# Altium footprint library Analog.PcbLib: 14 footprints
Each footprint in its own frame and in the unit in brackets; x right, y up, seen from the top. Pads: shape width x height; smd on the part's side, far side on the other; paste and mask are expansions set on the pad; w line width, h text height; cw(c..) or ccw(c..) is an arc to the next point about the centre after c.
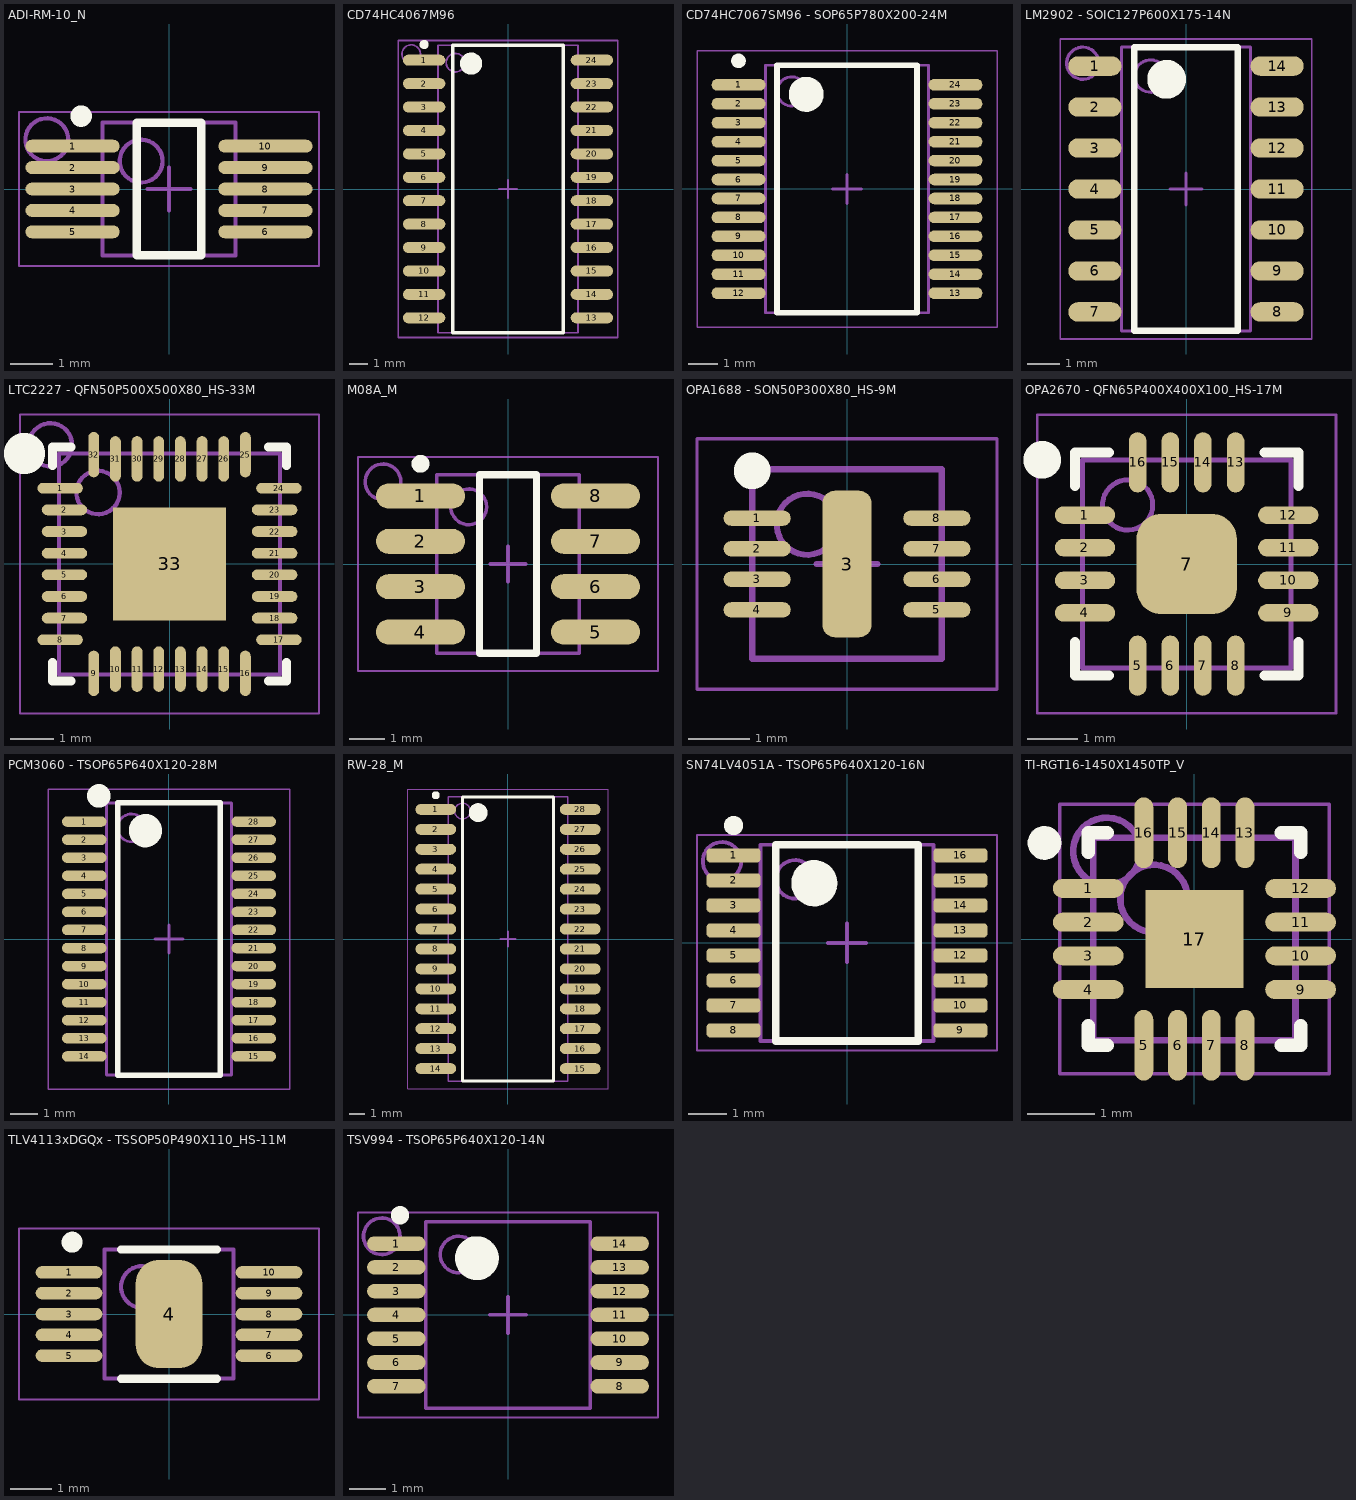
[diagram p0: the footprints below, top view; thin cyan lines are the x and y axes]

## ADI-RM-10_N [mm] "SOP, 10-Leads, Body 3x3mm, Pitch 0.5mm, IPC Medium Density"
height 1.1
pads (10):
  oval 2.2x0.3 smd paste-0.025 mask+0.1: 1(-2.25,1) 2(-2.25,0.5) 3(-2.25,0) 4(-2.25,-0.5) 5(-2.25,-1) 6(2.25,-1) 7(2.25,-0.5) 8(2.25,0) 9(2.25,0.5) 10(2.25,1)
Top Overlay:
  circle w0.25: c-2.05,1.7 r0.125
  lines w0.2: -0.75,-1.55 -0.75,1.55 0.75,1.55 0.75,-1.55 -0.75,-1.55
Mechanical 13:
  circle w0.1: c-0.65,0.65 r0.5
  lines w0.1: -1.55,-1.55 -1.55,1.55 1.55,1.55 1.55,-1.55 -1.55,-1.55
Mechanical 15:
  lines w0.05: -3.5,-1.8 -3.5,1.8 3.5,1.8 3.5,-1.8 -3.5,-1.8
  lines w0.1: -0.5,0 0.5,0 ; 0,-0.5 0,0.5
Assembly:
  circle w0.1: c-2.85,1.15 r0.5
  lines w0.05: -3.5,-1.8 3.5,-1.8 3.5,1.8 -3.5,1.8 -3.5,-1.8
  text ".Designator" at -2.35,-0.25 h1.1
3D body: height 1.1, standoff 0.05, extent -1.55,-1.55 1.55,1.55

## CD74HC4067M96 [mm] "SOIC, 24-Leads, Body 15.6x7.6mm (max), Pitch 1.27mm, IPC Medium Density"
height 2.65
pads (24):
  oval 2.3x0.6 smd: 1(-4.55,6.985) 2(-4.55,5.715) 3(-4.55,4.445) 4(-4.55,3.175) 5(-4.55,1.905) 6(-4.55,0.635) 7(-4.55,-0.635) 8(-4.55,-1.905) 9(-4.55,-3.175) 10(-4.55,-4.445) 11(-4.55,-5.715) 12(-4.55,-6.985) 13(4.55,-6.985) 14(4.55,-5.715) 15(4.55,-4.445) 16(4.55,-3.175) 17(4.55,-1.905) 18(4.55,-0.635) 19(4.55,0.635) 20(4.55,1.905) 21(4.55,3.175) 22(4.55,4.445) 23(4.55,5.715) 24(4.55,6.985)
Top Overlay:
  circle w0.6: c-2,6.8 r0.3
  circle w0.25: c-4.55,7.835 r0.125
  lines w0.2: -3,-7.8 3,-7.8 3,7.8 -3,7.8 -3,-7.8
Mechanical 13:
  circle w0.1: c-2.85,6.85 r0.5
  lines w0.1: -3.8,-7.8 3.8,-7.8 3.8,7.8 -3.8,7.8 -3.8,-7.8
Mechanical 15:
  lines w0.1: -0.5,0 0.5,0 ; 0,-0.5 0,0.5 ; -5.95,-8.05 5.95,-8.05 5.95,8.05 -5.95,8.05 -5.95,-8.05
Assembly:
  circle w0.1: c-5.25,7.32 r0.5
  lines w0.1: -5.95,-8.05 -5.95,8.05 5.95,8.05 5.95,-8.05 -5.95,-8.05
  text ".Designator" at 0.3,-2.1 h1.1
3D body: height 2.65, standoff 0.1, extent -3.8,-7.8 3.8,7.8

## CD74HC7067SM96 - SOP65P780X200-24M [mm] "SOP, 24-Leads, Body 8.20x5.30mm, Pitch 0.65mm, IPC Low Density"
height 2
pads (24):
  oval 1.85x0.4 smd paste-0.06: 1(-3.725,3.575) 2(-3.725,2.925) 3(-3.725,2.275) 4(-3.725,1.625) 5(-3.725,0.975) 6(-3.725,0.325) 7(-3.725,-0.325) 8(-3.725,-0.975) 9(-3.725,-1.625) 10(-3.725,-2.275) 11(-3.725,-2.925) 12(-3.725,-3.575) 13(3.725,-3.575) 14(3.725,-2.925) 15(3.725,-2.275) 16(3.725,-1.625) 17(3.725,-0.975) 18(3.725,-0.325) 19(3.725,0.325) 20(3.725,0.975) 21(3.725,1.625) 22(3.725,2.275) 23(3.725,2.925) 24(3.725,3.575)
Top Overlay:
  circle w0.6: c-1.4,3.25 r0.3
  circle w0.25: c-3.725,4.4 r0.125
  lines w0.2: -2.4,-4.25 2.4,-4.25 2.4,4.25 -2.4,4.25 -2.4,-4.25
Mechanical 13:
  circle w0.1: c-1.9,3.35 r0.5
  lines w0.1: -2.8,-4.25 2.8,-4.25 2.8,4.25 -2.8,4.25 -2.8,-4.25
Mechanical 15:
  lines w0.05: -5.15,-4.75 5.15,-4.75 5.15,4.75 -5.15,4.75 -5.15,-4.75
  lines w0.1: -0.5,0 0.5,0 ; 0,-0.5 0,0.5
3D body: height 2, standoff 0.05, extent -2.8,-4.25 2.8,4.25

## LM2902 - SOIC127P600X175-14N [mm] "SOIC, 14-Leads, Body 8.65x3.90mm, Pitch 1.27mm, IPC Medium Density"
height 1.75
pads (14):
  oval 1.65x0.6 smd paste-0.028: 1(-2.825,3.81) 2(-2.825,2.54) 3(-2.825,1.27) 4(-2.825,0) 5(-2.825,-1.27) 6(-2.825,-2.54) 7(-2.825,-3.81) 8(2.825,-3.81) 9(2.825,-2.54) 10(2.825,-1.27) 11(2.825,0) 12(2.825,1.27) 13(2.825,2.54) 14(2.825,3.81)
Top Overlay:
  circle w0.6: c-0.6,3.4 r0.3
  lines w0.2: -1.6,-4.4 -1.6,4.4 1.6,4.4 1.6,-4.4 -1.6,-4.4
Mechanical 13:
  circle w0.1: c-1.1,3.5 r0.5
  lines w0.1: -2,-4.4 -2,4.4 2,4.4 2,-4.4 -2,-4.4
Mechanical 15:
  lines w0.05: -3.9,-4.65 -3.9,4.65 3.9,4.65 3.9,-4.65 -3.9,-4.65
  lines w0.1: -0.5,0 0.5,0 ; 0,-0.5 0,0.5
Assembly:
  circle w0.1: c-3.2,3.9 r0.5
  lines w0.05: -3.9,-4.65 3.9,-4.65 3.9,4.65 -3.9,4.65 -3.9,-4.65
  text ".Designator" at 0.3,-2.1 h1.1
3D body: height 1.75, standoff 0.1, extent -2,-4.4 2,4.4

## LTC2227 - QFN50P500X500X80_HS-33M [mm] "QFN, 32-Leads, Body 5.00x5.00mm, Pitch 0.50mm, Thermal Pad 3.30x3.30mm, IPC Low Density"
height 0.8
pads (33):
  oval 1.05x0.25 smd paste-0.025: 1(-2.525,1.75) 2(-2.425,1.25) 3(-2.425,0.75) 4(-2.425,0.25) 5(-2.425,-0.25) 6(-2.425,-0.75) 7(-2.425,-1.25) 8(-2.525,-1.75) 17(2.525,-1.75) 18(2.425,-1.25) 19(2.425,-0.75) 20(2.425,-0.25) 21(2.425,0.25) 22(2.425,0.75) 23(2.425,1.25) 24(2.525,1.75)
  oval 0.25x1.05 smd paste-0.025: 9(-1.75,-2.525) 10(-1.25,-2.425) 11(-0.75,-2.425) 12(-0.25,-2.425) 13(0.25,-2.425) 14(0.75,-2.425) 15(1.25,-2.425) 16(1.75,-2.525) 25(1.75,2.525) 26(1.25,2.425) 27(0.75,2.425) 28(0.25,2.425) 29(-0.25,2.425) 30(-0.75,2.425) 31(-1.25,2.425) 32(-1.75,2.525)
  rect 2.6x2.6 smd paste-0.6: 33(0,0)
Top Overlay:
  circle w0.7: c-3.35,2.55 r0.125
  lines w0.2: -2.7,-2.275 -2.7,-2.7 -2.275,-2.7 ; -2.7,2.275 -2.7,2.7 -2.275,2.7 ; 2.275,-2.7 2.7,-2.7 2.7,-2.275 ; 2.275,2.7 2.7,2.7 2.7,2.275
Mechanical 13:
  circle w0.1: c-1.65,1.65 r0.5
  lines w0.1: -2.55,-2.55 2.55,-2.55 2.55,2.55 -2.55,2.55 -2.55,-2.55
Mechanical 15:
  lines w0.05: -3.45,-3.45 3.45,-3.45 3.45,3.45 -3.45,3.45 -3.45,-3.45
  lines w0.1: -0.5,0 0.5,0 ; 0,-0.5 0,0.5
Assembly:
  circle w0.1: c-2.75,2.75 r0.5
  lines w0.05: -3.45,-3.45 -3.45,3.45 3.45,3.45 3.45,-3.45 -3.45,-3.45
  text ".Designator" at -2.325,-0.3 h1.1
3D body: height 0.8, standoff 0, extent -2.55,-2.55 2.55,2.55

## M08A_M [mm] "SOIC, 8-Leads, Body 4.9x3.9mm, Pitch 1.27mm, IPC Low Density"
height 1.75
pads (8):
  oval 2.5x0.7 smd paste-0.025: 1(-2.45,1.905) 2(-2.45,0.635) 3(-2.45,-0.635) 4(-2.45,-1.905) 5(2.45,-1.905) 6(2.45,-0.635) 7(2.45,0.635) 8(2.45,1.905)
Top Overlay:
  circle w0.25: c-2.45,2.805 r0.125
  lines w0.2: -0.8,-2.5 -0.8,2.5 0.8,2.5 0.8,-2.5 -0.8,-2.5
Mechanical 13:
  circle w0.1: c-1.1,1.6 r0.5
  lines w0.1: -2,-2.5 -2,2.5 2,2.5 2,-2.5 -2,-2.5
Mechanical 15:
  lines w0.05: -4.2,-3 -4.2,3 4.2,3 4.2,-3 -4.2,-3
  lines w0.1: -0.5,0 0.5,0 ; 0,-0.5 0,0.5
Assembly:
  circle w0.1: c-3.5,2.3 r0.5
  lines w0.05: -4.2,-3 4.2,-3 4.2,3 -4.2,3 -4.2,-3
  text ".Designator" at -2.3,-0.25 h1.1
3D body: height 1.75, standoff 0.1, extent -2,-2.5 2,2.5

## OPA1688 - SON50P300X80_HS-9M [mm] "SON, 8-Leads, Body 3.00x3.00mm, Pitch 0.50mm, Thermal Pad 2.00x1.20mm, IPC Low Density"
height 0.8
pads (9):
  rrect100% 1.1x0.25 smd paste-99: 1(-1.47,0.75) 2(-1.47,0.25) 3(-1.47,-0.25) 4(-1.47,-0.75) 5(1.47,-0.75) 6(1.47,-0.25) 7(1.47,0.25) 8(1.47,0.75)
  rrect50% 0.8x2.4 smd paste-99: 3(0,0)
Top Overlay:
  circle w0.5: c-1.55,1.525 r0.05
Top Paste:
  lines w0.23: -1.875,-0.75 -1.325,-0.75 ; -1.875,-0.25 -1.325,-0.25 ; -1.875,0.25 -1.325,0.25 ; -1.875,0.75 -1.325,0.75 ; 1.325,-0.75 1.875,-0.75 ; 1.325,-0.25 1.875,-0.25 ; 1.325,0.25 1.875,0.25 ; 1.325,0.75 1.875,0.75
  lines w0.4: -0.128,0.325 0.122,0.325 0.122,0.85 -0.128,0.85 -0.128,0.325 ; -0.125,-0.85 -0.125,-0.325 0.125,-0.325 0.125,-0.85 -0.125,-0.85
Mechanical 13:
  circle w0.1: c-0.65,0.65 r0.5
  lines w0.1: -1.55,-1.55 1.55,-1.55 1.55,1.55 -1.55,1.55 -1.55,-1.55
Mechanical 15:
  lines w0.05: -2.455,-2.05 2.455,-2.05 2.455,2.05 -2.455,2.05 -2.455,-2.05
  lines w0.1: -0.5,0 0.5,0 ; 0,-0.5 0,0.5
3D body: height 0.8, standoff 0, extent -1.55,-1.55 1.55,1.55

## OPA2670 - QFN65P400X400X100_HS-17M [mm] "QFN, 16-Leads, Body 4.00x4.00mm, Pitch 0.65mm, Thermal Pad 2.16x2.16mm, IPC Low Density"
height 1
pads (17):
  oval 1.2x0.35 smd paste-0.05: 1(-2.025,0.975) 2(-2.025,0.325) 3(-2.025,-0.325) 4(-2.025,-0.975) 9(2.025,-0.975) 10(2.025,-0.325) 11(2.025,0.325) 12(2.025,0.975)
  oval 0.35x1.2 smd paste-0.05: 5(-0.975,-2.025) 6(-0.325,-2.025) 7(0.325,-2.025) 8(0.975,-2.025) 13(0.975,2.025) 14(0.325,2.025) 15(-0.325,2.025) 16(-0.975,2.025)
  rrect50% 2x2 smd paste-99: 7(0,0)
Top Overlay:
  circle w0.5: c-2.875,2.075 r0.125
  lines w0.2: -2.225,-1.55 -2.225,-2.225 -1.55,-2.225 ; -2.225,1.55 -2.225,2.225 -1.55,2.225 ; 1.55,-2.225 2.225,-2.225 2.225,-1.55 ; 1.55,2.225 2.225,2.225 2.225,1.55
Top Paste:
  lines w0.9: -0.5,-0.5 -0.5,0.5 ; 0.5,-0.5 0.5,0.5
Mechanical 13:
  circle w0.1: c-1.175,1.175 r0.5
  lines w0.1: -2.075,-2.075 2.075,-2.075 2.075,2.075 -2.075,2.075 -2.075,-2.075
Mechanical 15:
  lines w0.05: -2.975,-2.975 2.975,-2.975 2.975,2.975 -2.975,2.975 -2.975,-2.975
  lines w0.1: -0.5,0 0.5,0 ; 0,-0.5 0,0.5
3D body: height 1, standoff 0.01, extent -2.075,-2.075 2.075,2.075

## PCM3060 - TSOP65P640X120-28M [mm] "TSOP, 28-Leads, Body 9.70x4.40mm, Pitch 0.65mm, IPC Low Density"
height 1.2
pads (28):
  oval 1.6x0.38 smd paste-99: 1(-3.05,4.225) 2(-3.05,3.575) 3(-3.05,2.925) 4(-3.05,2.275) 5(-3.05,1.625) 6(-3.05,0.975) 7(-3.05,0.325) 8(-3.05,-0.325) 9(-3.05,-0.975) 10(-3.05,-1.625) 11(-3.05,-2.275) 12(-3.05,-2.925) 13(-3.05,-3.575) 14(-3.05,-4.225) 15(3.05,-4.225) 16(3.05,-3.575) 17(3.05,-2.925) 18(3.05,-2.275) 19(3.05,-1.625) 20(3.05,-0.975) 21(3.05,-0.325) 22(3.05,0.325) 23(3.05,0.975) 24(3.05,1.625) 25(3.05,2.275) 26(3.05,2.925) 27(3.05,3.575) 28(3.05,4.225)
Top Overlay:
  circle w0.6: c-0.85,3.9 r0.3
  circle w0.6: c-2.525,5.15 r0.125
  lines w0.2: -1.85,-4.9 1.85,-4.9 1.85,4.9 -1.85,4.9 -1.85,-4.9
Top Paste:
  lines w0.36: -3.65,-3.575 -2.7,-3.575 ; -3.65,-2.275 -2.7,-2.275 ; -3.65,-0.975 -2.7,-0.975 ; -3.65,0.325 -2.7,0.325 ; -3.65,1.625 -2.7,1.625 ; -3.65,2.925 -2.7,2.925 ; -3.65,4.225 -2.7,4.225 ; -3.4,-4.225 -2.45,-4.225 ; -3.4,-2.925 -2.45,-2.925 ; -3.4,-1.625 -2.45,-1.625 ; -3.4,-0.325 -2.45,-0.325 ; -3.4,0.975 -2.45,0.975 ; -3.4,2.275 -2.45,2.275 ; -3.4,3.575 -2.45,3.575 ; 2.45,-4.225 3.4,-4.225 ; 2.45,-2.925 3.4,-2.925 ; 2.45,-1.625 3.4,-1.625 ; 2.45,-0.325 3.4,-0.325 ; 2.45,0.975 3.4,0.975 ; 2.45,2.275 3.4,2.275 ; 2.45,3.575 3.4,3.575 ; 2.7,-3.575 3.65,-3.575 ; 2.7,-2.275 3.65,-2.275 ; 2.7,-0.975 3.65,-0.975 ; 2.7,0.325 3.65,0.325 ; 2.7,1.625 3.65,1.625 ; 2.7,2.925 3.65,2.925 ; 2.7,4.225 3.65,4.225
Mechanical 13:
  circle w0.1: c-1.35,4 r0.5
  lines w0.1: -2.25,-4.9 2.25,-4.9 2.25,4.9 -2.25,4.9 -2.25,-4.9
Mechanical 15:
  lines w0.05: -4.35,-5.4 4.35,-5.4 4.35,5.4 -4.35,5.4 -4.35,-5.4
  lines w0.1: -0.5,0 0.5,0 ; 0,-0.5 0,0.5
3D body: height 1.2, standoff 0.1, extent -2.25,-4.9 2.25,4.9

## RW-28_M [mm] "SOIC, 28-Leads, Body 17.9x7.5mm, Pitch 1.27mm, IPC Low Density"
height 2.65
pads (28):
  oval 2.6x0.7 smd paste-0.025: 1(-4.6,8.255) 2(-4.6,6.985) 3(-4.6,5.715) 4(-4.6,4.445) 5(-4.6,3.175) 6(-4.6,1.905) 7(-4.6,0.635) 8(-4.6,-0.635) 9(-4.6,-1.905) 10(-4.6,-3.175) 11(-4.6,-4.445) 12(-4.6,-5.715) 13(-4.6,-6.985) 14(-4.6,-8.255) 15(4.6,-8.255) 16(4.6,-6.985) 17(4.6,-5.715) 18(4.6,-4.445) 19(4.6,-3.175) 20(4.6,-1.905) 21(4.6,-0.635) 22(4.6,0.635) 23(4.6,1.905) 24(4.6,3.175) 25(4.6,4.445) 26(4.6,5.715) 27(4.6,6.985) 28(4.6,8.255)
Top Overlay:
  circle w0.6: c-1.9,8.05 r0.3
  circle w0.25: c-4.6,9.155 r0.125
  lines w0.2: -2.9,-9.05 2.9,-9.05 2.9,9.05 -2.9,9.05 -2.9,-9.05
Mechanical 13:
  circle w0.1: c-2.9,8.15 r0.5
  lines w0.1: -3.8,-9.05 3.8,-9.05 3.8,9.05 -3.8,9.05 -3.8,-9.05
Mechanical 15:
  lines w0.05: -6.4,-9.55 6.4,-9.55 6.4,9.55 -6.4,9.55 -6.4,-9.55
  lines w0.1: -0.5,0 0.5,0 ; 0,-0.5 0,0.5
Assembly:
  text ".Designator" at -2.175,-0.25 h1.1
3D body: height 2.65, standoff 0.1, extent -3.8,-9.05 3.8,9.05

## SN74LV4051A - TSOP65P640X120-16N [mm] "TSOP, 16-Leads, Body 5.00x4.40mm, Pitch 0.65mm, IPC Medium Density"
height 1.2
pads (16):
  rrect50% 1.4x0.368 smd paste-0.051 mask+0.09: 1(-2.95,2.275) 2(-2.95,1.625) 3(-2.95,0.975) 4(-2.95,0.325) 5(-2.95,-0.325) 6(-2.95,-0.975) 7(-2.95,-1.625) 8(-2.95,-2.275) 9(2.95,-2.275) 10(2.95,-1.625) 11(2.95,-0.975) 12(2.95,-0.325) 13(2.95,0.325) 14(2.95,0.975) 15(2.95,1.625) 16(2.95,2.275)
Top Overlay:
  circle w0.25: c-2.95,3.05 r0.125
  circle w0.6: c-0.85,1.55 r0.3
  lines w0.2: -1.85,-2.55 -1.85,2.55 1.85,2.55 1.85,-2.55 -1.85,-2.55
Mechanical 13:
  circle w0.1: c-1.35,1.65 r0.5
  lines w0.1: -2.25,-2.55 -2.25,2.55 2.25,2.55 2.25,-2.55 -2.25,-2.55
Mechanical 15:
  lines w0.05: -3.9,-2.8 -3.9,2.8 3.9,2.8 3.9,-2.8 -3.9,-2.8
  lines w0.1: -0.5,0 0.5,0 ; 0,-0.5 0,0.5
Assembly:
  circle w0.1: c-3.25,2.12 r0.5
  lines w0.05: -3.9,-2.8 3.9,-2.8 3.9,2.8 -3.9,2.8 -3.9,-2.8
  text ".Designator" at -2.2,-0.2 h1.1
3D body: height 1.2, standoff 0.05, extent -2.25,-2.55 2.25,2.55

## TI-RGT16-1450X1450TP_V [mm] "QFN, 16-Leads, Body 3x3mm, Pitch 0.5mm, Thermal Pad 1.45x1.45mm"
height 1
pads (17):
  oval 1.05x0.28 smd paste-0.025 mask+0.12: 1(-1.575,0.75) 2(-1.575,0.25) 3(-1.575,-0.25) 4(-1.575,-0.75) 9(1.575,-0.75) 10(1.575,-0.25) 11(1.575,0.25) 12(1.575,0.75)
  oval 0.28x1.05 smd paste-0.025 mask+0.12: 5(-0.75,-1.575) 6(-0.25,-1.575) 7(0.25,-1.575) 8(0.75,-1.575) 13(0.75,1.575) 14(0.25,1.575) 15(-0.25,1.575) 16(-0.75,1.575)
  rect 1.45x1.45 smd paste-0.15: 17(0,0)
Top Overlay:
  circle w0.25: c-2.225,1.425 r0.125
  lines w0.2: -1.575,-1.29 -1.575,-1.575 -1.29,-1.575 ; -1.575,1.29 -1.575,1.575 -1.29,1.575 ; 1.29,-1.575 1.575,-1.575 1.575,-1.29 ; 1.29,1.575 1.575,1.575 1.575,1.29
Mechanical 13:
  circle w0.1: c-0.6,0.6 r0.5
  lines w0.1: -1.5,-1.5 1.5,-1.5 1.5,1.5 -1.5,1.5 -1.5,-1.5
Mechanical 15:
  lines w0.05: -2,-2 2,-2 2,2 -2,2 -2,-2
  lines w0.1: -0.5,0 0.5,0 ; 0,-0.5 0,0.5
Assembly:
  circle w0.1: c-1.3,1.3 r0.5
  lines w0.05: -2,-2 -2,2 2,2 2,-2 -2,-2
  text ".Designator" at -1.375,-0.15 h0.8
3D body: height 1, standoff 0, extent -1.5,-1.5 1.5,1.5

## TLV4113xDGQx - TSSOP50P490X110_HS-11M [mm] "TSSOP, 10-Leads, Body 3.00x3.00mm, Pitch 0.50mm, Thermal Pad 1.89x1.83mm, IPC Low Density"
height 1.1
pads (11):
  oval 1.6x0.3 smd paste-99: 1(-2.4,1) 2(-2.4,0.5) 3(-2.4,0) 4(-2.4,-0.5) 5(-2.4,-1) 6(2.4,-1) 7(2.4,-0.5) 8(2.4,0) 9(2.4,0.5) 10(2.4,1)
  rrect70% 1.6x2.6 smd paste-0.3: 4(0,0)
Top Overlay:
  circle w0.25: c-2.325,1.725 r0.125
  lines w0.2: -1.15,-1.55 1.15,-1.55 ; -1.15,1.55 1.15,1.55
Top Paste:
  lines w0.28: -3.025,-1 -2.125,-1 ; -3.025,0 -2.125,0 ; -3.025,1 -2.125,1 ; -2.675,-0.5 -1.775,-0.5 ; -2.675,0.5 -1.775,0.5 ; 1.775,-1 2.675,-1 ; 1.775,0 2.675,0 ; 1.775,1 2.675,1 ; 2.125,-0.5 3.025,-0.5 ; 2.125,0.5 3.025,0.5
Mechanical 13:
  circle w0.1: c-0.65,0.65 r0.5
  lines w0.1: -1.55,-1.55 1.55,-1.55 1.55,1.55 -1.55,1.55 -1.55,-1.55
Mechanical 15:
  lines w0.05: -3.6,-2.05 3.6,-2.05 3.6,2.05 -3.6,2.05 -3.6,-2.05
  lines w0.1: -0.5,0 0.5,0 ; 0,-0.5 0,0.5
3D body: height 1.1, standoff 0.05, extent -1.55,-1.55 1.55,1.55

## TSV994 - TSOP65P640X120-14N [mm] "TSOP, 14-Leads, Body 5.00x4.40mm, Pitch 0.65mm, IPC Medium Density"
height 1.2
pads (14):
  oval 1.6x0.4 smd paste-0.06: 1(-3.05,1.95) 2(-3.05,1.3) 3(-3.05,0.65) 4(-3.05,0) 5(-3.05,-0.65) 6(-3.05,-1.3) 7(-3.05,-1.95) 8(3.05,-1.95) 9(3.05,-1.3) 10(3.05,-0.65) 11(3.05,0) 12(3.05,0.65) 13(3.05,1.3) 14(3.05,1.95)
Top Overlay:
  circle w0.6: c-0.85,1.55 r0.3
  circle w0.25: c-2.95,2.725 r0.125
Mechanical 13:
  circle w0.1: c-1.35,1.65 r0.5
  lines w0.1: -2.25,-2.55 2.25,-2.55 2.25,2.55 -2.25,2.55 -2.25,-2.55
Mechanical 15:
  lines w0.05: -4.1,-2.8 4.1,-2.8 4.1,2.8 -4.1,2.8 -4.1,-2.8
  lines w0.1: -0.5,0 0.5,0 ; 0,-0.5 0,0.5
Assembly:
  circle w0.1: c-3.45,2.15 r0.5
  lines w0.05: -4.1,-2.8 -4.1,2.8 4.1,2.8 4.1,-2.8 -4.1,-2.8
  text ".Designator" at -2.4,-0.2 h1.1
3D body: height 1.2, standoff 0.05, extent -2.25,-2.55 2.25,2.55